# EAGLE library part 90814-0820 (library molex)
CONN HEADER 20POS 1.27MM SMD TIN
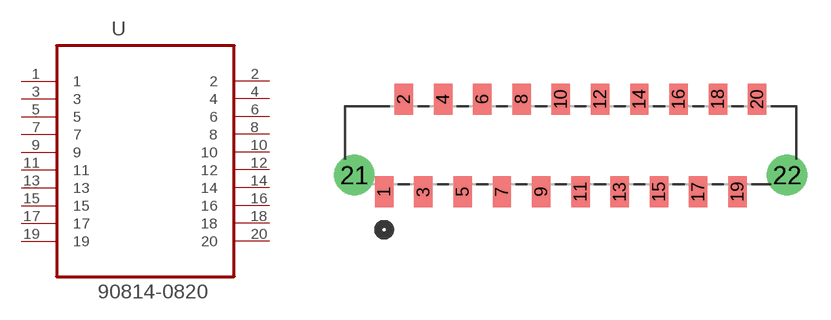
[diagram p64: symbol with the pads of MOLEX_90814-0820; footprint MOLEX_90814-0820]

Designator prefix U

## 90814-0820 (MPN: 90814-0820; OC_FARNELL: 1518218; OC_NEWARK: 74M7861; PACKAGE: CONN-20POS; SUPPLIER: Molex)  [MOLEX_90814-0820]
1  1  pas
2  2  pas
3  3  pas
4  4  pas
5  5  pas
6  6  pas
7  7  pas
8  8  pas
9  9  pas
10  10  pas
11  11  pas
12  12  pas
13  13  pas
14  14  pas
15  15  pas
16  16  pas
17  17  pas
18  18  pas
19  19  pas
20  20  pas

## Footprint MOLEX_90814-0820 (pad centres in mm)
smd 1.194 x 2.007: 1 0,0; 2 1.27,5.994; 3 2.54,0; 4 3.81,5.994; 5 5.08,0; 6 6.35,5.994; 7 7.62,0; 8 8.89,5.994; 9 10.16,0; 10 11.43,5.994; 11 12.7,0; 12 13.97,5.994; 13 15.24,0; 14 16.51,5.994; 15 17.78,0; 16 19.05,5.994; 17 20.32,0; 18 21.59,5.994; 19 22.86,0; 20 24.13,5.994
drill 1.753: 21 -1.93,1.092; 22 26.06,1.092